# Altium schematic symbol library IC_ROHM_BH1750FVI-TR_eec.SchLib: 1 symbol
Pins are listed as number, name and electrical type; pins without a type are passive.

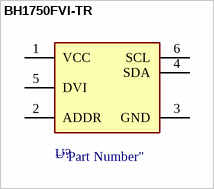
[diagram p0: symbol BH1750FVI-TR]

## BH1750FVI-TR
designator U?  (value not drawn)
pins: 1 VCC, 2 ADDR, 3 GND, 4 SDA, 5 DVI, 6 SCL